# Altium schematic symbol library DAC.SCHLIB: 78 symbols
Pins are listed as number, name and electrical type; pins without a type are passive.

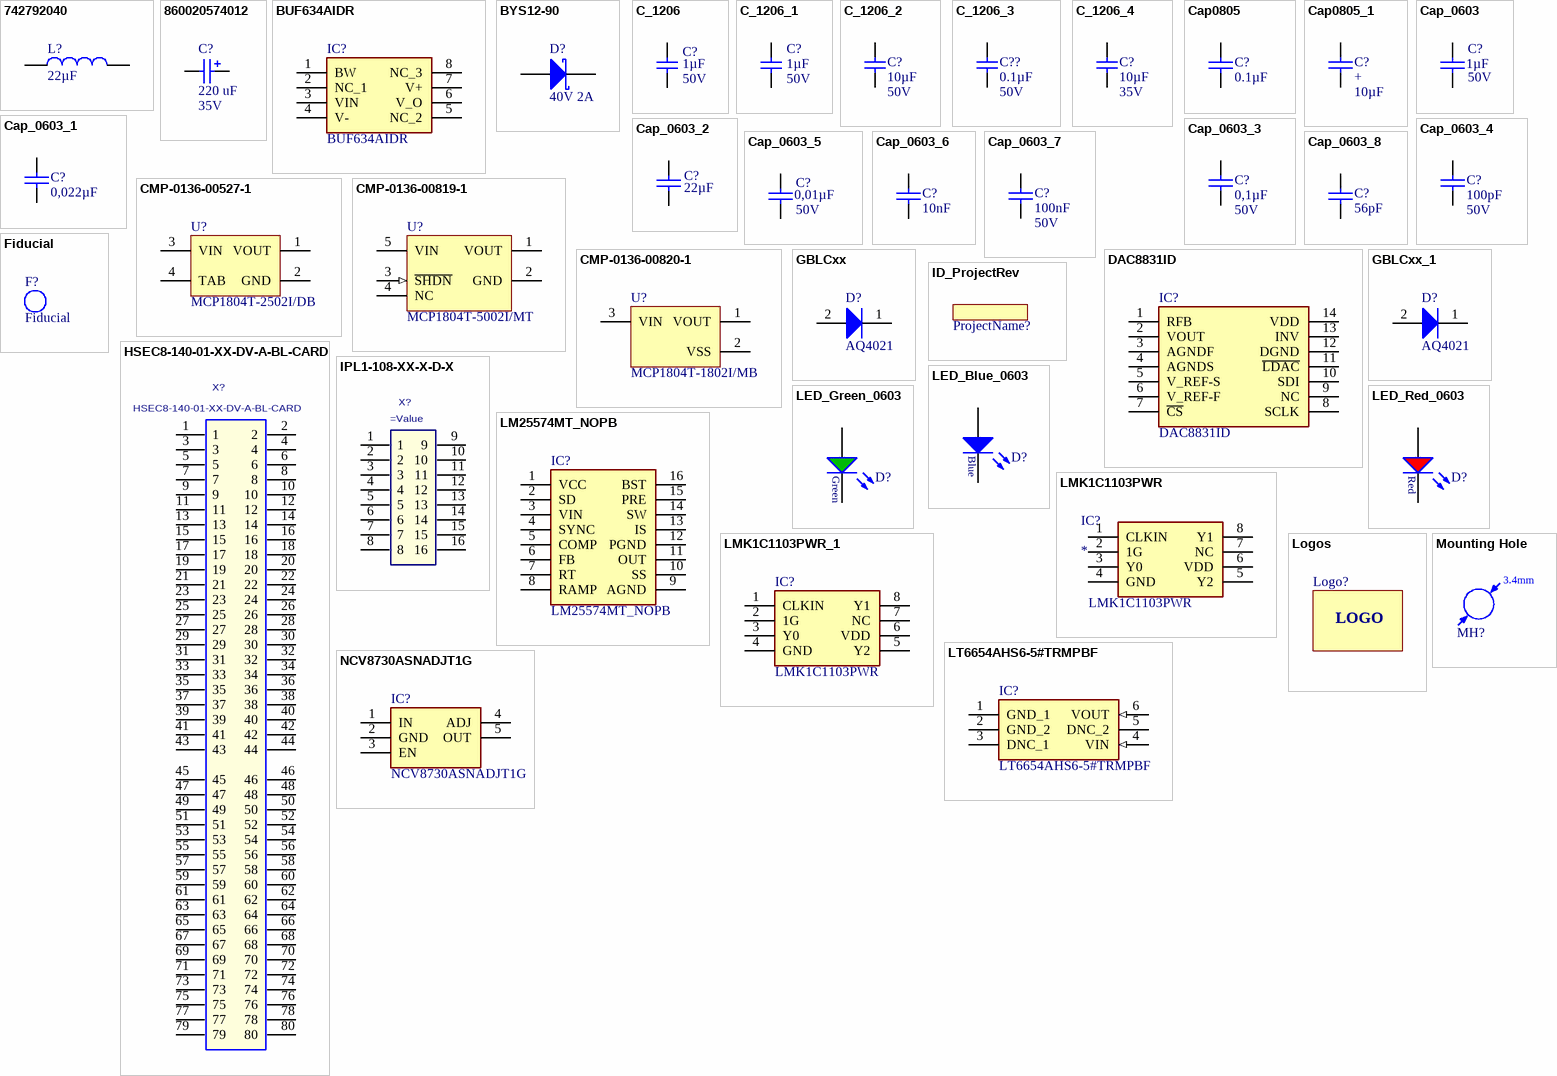
[diagram p0: symbols 742792040 to NCV8730ASNADJT1G]

## 742792040
designator L?, comment 22µF
Inductance, 0805, 100 MHz, 600 Ohm, 2 A; Manufacturer Part Number: 742792040; Manufacturer: Wurth Elektronik; Type: Inductance SMD; DC current: 2 A; Value: 600 Ohm; Created from: MGremer; PartID: 1; Created On: 18.01.2021 14:53:17; ComponentLink1Description: Datasheet; ComponentLink1URL: https://www.mouser.de/datasheet/2/445/742792040-1720361.pdf; Component Type: Inductance; Device Package: 0805; Last Updated: 18.01.2021 14:53:25; Mounting Type: SMD; Operating Temperature: -55 - 125 °C; Series: WE-CBF; Supplier 1: Mouser; Supplier Part Number 1: 710-742792040; Live Cycle Status: 1; Stock number: not stored
footprint WE-CBF_0805_High Current
pins: 1, 2

## 860020574012
designator C?, comment 220 uF  Voltage: 35V
WCAP-ATG5 Aluminum Electrolytic Capacitors, 8x11.5mm, 35 Vdc, 220 uF; Part Number: 860020574012; MF: Wurth Elektronik; ComponentLink1Description: Manufacturer; ComponentLink1URL: http://www.we-online.de; ComponentLink2Description: Datasheet; ComponentLink2URL: http://katalog.we-online.com/pbs/datasheet/860020574012.pdf; Published Date: Sep. 2017; Size: 8x11.5mm; Life Cycle: 2000h; Operating Temperature: -40 °C up to +105 °C; Value: 220 uF; MPN: 860020574012; Supplier 1: Mouser; Supplier Part Number 1: 710-860020574012
footprint WCAP-ATG5_8x11.5x3.5
pins: 1 P, 2 N

## BUF634AIDR
designator IC?
Integrated Circuit; Manufacturer_Name: Texas Instruments; Datasheet Link: http://www.ti.com/lit/gpn/BUF634A; Height: 1.75mm; Mouser2 Part Number: 595-BUF634AIDR; Mouser2 Price/Stock: https://www.mouser.com/Search/Refine.aspx?Keyword=595-BUF634AIDR; Manufacturer_Part_Number: BUF634AIDR
footprint SOIC127P600X175-8N
pins: 1 BW, 2 NC_1, 3 VIN, 4 V-, 5 NC_2, 6 V_O, 7 V+, 8 NC_3

## BYS12-90
designator D?, comment 40V 2A
Schottky Diode; MPN: BYS12-90-E3/TR3; MF: Vishay; Forward Voltage: 750mV; Reverse Voltage: 90V; Rated Current: 1.5A; Package: DO-214AC; Supplier 1: Farnell; Supplier 2: Mouser; Supplier 3: Digi-Key; Supplier Part Number 1: 2889144; Supplier Part Number 2: 625-BYS12-90-E3/TR3; Supplier Part Number 3: BYS12-90-E3/GICT-ND; ComponentLink1Description: Manufacturer; ComponentLink1URL: https://www.vishay.com/; ComponentLink2Description: Datasheet; ComponentLink2URL: https://www.vishay.com/docs/88950/bys12-90.pdf
footprint DIOM4227X23N (Molded Diode, 2-Leads, Body 4,25x2,67mm, IPC Medium Density)
pins: 1 K, 2 A

## C_1206
designator C?, comment 1µF  Voltage: 50V
Capacitor 1206; MPN: CL31A106MBHNNNE; Tolerance: 10%; MF: Samsung; Dielectric: X5R; Package: 1206; Value: 1µF; Created: 2020_09_17_Liegmann; Supplier 1: Mouser; Supplier Part Number 1: 187-CL31A106MBHNNNE
footprint C_1206
pins: 1, 2

## C_1206_1
designator C?, comment 1µF  Voltage: 50V
Capacitor 1206; MPN: CL31A106MBHNNNE; Tolerance: 20%; MF: Samsung; Dielectric: X5R; Package: 1206; Value: 1µF; Supplier 1: Mouser; Supplier Part Number 1: 187-CL31A106MBHNNNE
footprint C_1206
pins: 1, 2

## C_1206_2
designator C?, comment 10µF  Voltage: 50V
Capacitor 1206; MPN: CL31A106MBHNNNE; Tolerance: 10%; MF: Samsung; Dielectric: X5R; Package: 1206; Value: 10µF; Created: 2020_09_17_Liegmann; Supplier 1: Mouser; Supplier Part Number 1: 187-CL31A106MBHNNNE
footprint C_1206
pins: 1, 2

## C_1206_3
designator C??, comment 0.1µF  Voltage: 50V
Capacitor 1206; MPN: CL31A106MBHNNNE; Tolerance: 20%; MF: Samsung; Dielectric: X5R; Package: 1206; Value: 0.1µF; Supplier 1: Mouser; Supplier Part Number 1: 187-CL31A106MBHNNNE
footprint C_1206
pins: 1, 2

## C_1206_4
designator C?, comment 10µF  Voltage: 35V
Capacitor 1206; MPN: GRM319R6YA106KA12D; Tolerance: 10%; MF: Murata Electronics; Dielectric: X5R; Package: 1206; Value: 10µF; Created: 2018_06_25_AGeiger; Supplier 1: Mouser; Supplier Part Number 1: 81-GRM319R6YA106KA2D
footprint C_1206
pins: 1, 2

## Cap0805
designator C?, comment 0.1µF
CAP CER 0805; MPN: CL21A106KQFNNNE; MF: Samsung Electro-Mechanics; Dielectric: X5R; Supplier 1: Mouser; Supplier 2: *; Supplier Part Number 1: 187-CL21A106KQFNNNE; Supplier Part Number 2: *; Package: 0805; Value: 0.1µF
footprint Cap0805
pins: 1, 2

## Cap0805_1
designator C?, comment +  value 10µF
CAP CER 0805; MPN: CL21A106KQFNNNE; MF: Samsung Electro-Mechanics; Dielectric: X5R; Supplier 1: Mouser; Supplier 2: *; Supplier Part Number 1: 187-CL21A106KQFNNNE; Supplier Part Number 2: *; Package: 0805
footprint Cap0805
pins: 1, 2

## Cap_0603
designator C?, comment 1µF  Voltage: 50V
MPN: CC0603KRX7R9BB104; MF: Yageo; Dielectric: X5R; Value: 1µF; Supplier 1: Mouser; Supplier 2: Mouser; Supplier Part Number 1: 603-CC603KRX7R9BB104; Supplier Part Number 2: 710-885382206004; Package: 0603
footprint CAPC1608X07N (Chip Capacitor, 2-Leads, Body 1,60x0,80mm, IPC Medium Density)
pins: 1, 2

## Cap_0603_1
designator C?, comment 0,022µF
MPN: 885012206065; MF: Würth; Voltage: 25V; Dielectric: X7R; Value: 0,022µF; Supplier 1: Mouser; Supplier 2: *; Supplier Part Number 1: 710-885012206065; Supplier Part Number 2: *; Package: 0603
footprint CAPC1608X07N (Chip Capacitor, 2-Leads, Body 1,60x0,80mm, IPC Medium Density)
pins: 1, 2

## Cap_0603_2
designator C?, comment 22µF
MPN: C0603C752J3GACTU; Value: 7.5nF; MF: KEMET; Voltage: 25V; Dielectric: C0G; Supplier 1: Mouser; Supplier 2: *; Supplier Part Number 1: 80-C0603C752J3GACTU; Supplier Part Number 2: *; Package: 0603
footprint CAPC1608X07N (Chip Capacitor, 2-Leads, Body 1,60x0,80mm, IPC Medium Density)
pins: 1, 2

## Cap_0603_3
designator C?, comment 0,1µF  Voltage: 50V
MPN: CC0603KRX7R9BB104; MF: Yageo; Tolerance: 10%; Dielectric: X5R; Value: 0,1µF; Supplier 1: Mouser; Supplier 2: Mouser; Supplier Part Number 1: 603-CC603KRX7R9BB104; Supplier Part Number 2: 710-885382206004; Package: 0603
footprint CAPC1608X07N (Chip Capacitor, 2-Leads, Body 1,60x0,80mm, IPC Medium Density)
pins: 1, 2

## Cap_0603_4
designator C?, comment 100pF  Voltage: 50V
MPN: CC0603KRX7R9BB104; MF: Yageo; Tolerance: 10%; Dielectric: X5R; Value: 100pF; Supplier 1: Mouser; Supplier 2: Mouser; Supplier Part Number 1: 603-CC603KRX7R9BB104; Supplier Part Number 2: 710-885382206004; Package: 0603
footprint CAPC1608X07N (Chip Capacitor, 2-Leads, Body 1,60x0,80mm, IPC Medium Density)
pins: 1, 2

## Cap_0603_5
designator C?, comment 0,01µF  Voltage: 50V
MPN: CC0603KRX7R9BB104; MF: Yageo; Tolerance: 10%; Dielectric: X5R; Value: 0,01µF; Supplier 1: Mouser; Supplier 2: Mouser; Supplier Part Number 1: 603-CC603KRX7R9BB104; Supplier Part Number 2: 710-885382206004; Package: 0603
footprint CAPC1608X07N (Chip Capacitor, 2-Leads, Body 1,60x0,80mm, IPC Medium Density)
pins: 1, 2

## Cap_0603_6
designator C?, comment 10nF
MPN: 885012206065; MF: Würth Elektronik; Voltage: 25V; Dielectric: X7R; Value: 10nF; Supplier 1: Mouser; Supplier 2: Digi-Key; Supplier Part Number 1: 710-885012206065; Supplier Part Number 2: 732-7983-1-ND; Package: 0603
footprint CAPC1608X07N (Chip Capacitor, 2-Leads, Body 1,60x0,80mm, IPC Medium Density)
pins: 1, 2

## Cap_0603_7
designator C?, comment 100nF  Voltage: 50V
MPN: CC0603KRX7R9BB104; MF: Yageo; Dielectric: X5R; Value: 100nF; Supplier 1: Mouser; Supplier 2: Mouser; Supplier Part Number 1: 603-CC603KRX7R9BB104; Supplier Part Number 2: 710-885382206004; Package: 0603
footprint CAPC1608X07N (Chip Capacitor, 2-Leads, Body 1,60x0,80mm, IPC Medium Density)
pins: 1, 2

## Cap_0603_8
designator C?, comment 56pF
MPN: C0603C560J5GACTU; MF: Kemet; Voltage: 50V; Dielectric: C0G; Value: 56pF; Supplier 1: Mouser; Supplier 2: *; Supplier Part Number 1: 80-C0603C560J5G; Supplier Part Number 2: *; Package: 0603
footprint CAPC1608X07N (Chip Capacitor, 2-Leads, Body 1,60x0,80mm, IPC Medium Density)
pins: 1, 2

## CMP-0136-00527-1
designator U?, comment MCP1804T-2502I/DB
150 mA, 28V LDO Regulator With Shutdown, 3-Pin SOT-223, Industrial Temperature, Tape and Reel; Manufacturer: Microchip; PackageDescription: 3-Lead Plastic Small Outline Transistor (DB) [SOT-223]; PackageVersion: revBB, Aug-2009; DatasheetVersion: revB, Nov-2009; PackageReference: SOT-223-DB3; Manufacturer Part Number: MCP1804T-2502I/DB
footprint SOT-223-DB3_L (SOT223, 4-Leads, Body 6.5x3.5mm, Pitch 2.3mm, Lead Span 7mm, IPC High Density)
footprint SOT-223-DB3_N (SOT223, 4-Leads, Body 6.5x3.5mm, Pitch 2.3mm, Lead Span 7mm, IPC Medium Density)
footprint SOT-223-DB3_M (SOT223, 4-Leads, Body 6.5x3.5mm, Pitch 2.3mm, Lead Span 7mm, IPC Low Density)
pins: 1 VOUT (power), 2 GND (power), 3 VIN (power), 4 TAB (power)

## CMP-0136-00819-1
designator U?, comment MCP1804T-5002I/MT
150 mA, 28V LDO Regulator With Shutdown, 5-Pin SOT-89, Industrial Temperature, Tape and Reel; Manufacturer: Microchip; DatasheetVersion: revB, Nov-2009; PackageReference: SOT-89-MT5; PackageDescription: 5-Lead Plastic Small Outline Transistor Header (MT) [SOT-89]; PackageVersion: revBB, Aug-2009; Manufacturer Part Number: MCP1804T-5002I/MT
footprint SOT-89-MT5_L (SOT89, 5-Leads, Body 4.5x2.4 mm, Pitch 1.5mm, Lead Span 4.2mm, IPC High Density)
footprint SOT-89-MT5_M (SOT89, 5-Leads, Body 4.5x2.4 mm, Pitch 1.5mm, Lead Span 4.2mm, IPC Low Density)
footprint SOT-89-MT5_N (SOT89, 5-Leads, Body 4.5x2.4 mm, Pitch 1.5mm, Lead Span 4.2mm, IPC Medium Density)
pins: 1 VOUT (power), 2 GND (power), 3 ~{SHDN} (in), 4 NC, 5 VIN (power)

## CMP-0136-00820-1
designator U?, comment MCP1804T-1802I/MB
150 mA, 28V LDO Regulator With Shutdown, 3-Pin SOT-89, Industrial Temperature, Tape and Reel; Manufacturer: Microchip; PackageVersion: revBB, Aug-2009; DatasheetVersion: revB, Nov-2009; PackageReference: SOT-89-MB3; PackageDescription: 3-Lead Plastic Small Outline Transistor Header (MB) [SOT-89]; Code_IPC: SOT89; Manufacturer Part Number: MCP1804T-1802I/MB
footprint SOT-89-MB3_L (SOT89, 3-Leads, Body 4.5x2.4 mm, Pitch 1.5mm, Lead Span 4.1mm, IPC High Density)
footprint SOT-89-MB3_M (SOT89, 3-Leads, Body 4.5x2.4 mm, Pitch 1.5mm, Lead Span 4.1mm, IPC Low Density)
footprint SOT-89-MB3_N (SOT89, 3-Leads, Body 4.5x2.4 mm, Pitch 1.5mm, Lead Span 4.1mm, IPC Medium Density)
pins: 1 VOUT (power), 2 VSS (power), 3 VIN (power)

## DAC8831ID
designator IC?
Integrated Circuit; Manufacturer_Name: Texas Instruments; Datasheet Link: http://www.ti.com/lit/gpn/dac8831; Height: 1.75mm; Manufacturer_Part_Number: DAC8831ID
footprint SOIC127P600X175-14N
pins: 1 RFB, 2 VOUT, 3 AGNDF, 4 AGNDS, 5 V_REF-S, 6 V_REF-F, 7 ~{CS}, 8 SCLK, 9 NC, 10 SDI, 11 ~{LDAC}, 12 DGND, 13 INV, 14 VDD

## Fiducial
designator F?  (no BOM)
Fiducial for Assembler
footprint Fiducial_1.7mm (Fiducial)

## GBLCxx
designator D?, comment AQ4021
ESD Suppressor Diode TVS Bi-Dir 5V; MPN: AQ4021-01FTG-C; MF: Littelfuse; Reverse Standoff Voltage: 5.0V; Breakdown Voltage: 6.3V; Package: SOD-323; Supplier 1: Mouser; Supplier 2: Digi-Key; Supplier Part Number 1: 576-AQ4021-01FTG-C; Supplier Part Number 2: F10397CT-ND; ComponentLink1Description: Datasheet; ComponentLink1URL: https://static6.arrow.com/aropdfconversion/cf1b73a38d87e210bfa153441e03466b149f09ba/gblci.pdf; Supplier 3: Farnell; Supplier Part Number 3: 2834965; Model: AQ4021
footprint SOD-323_SuppressorDiode (SOD, 2-Leads, Body 1.7x1.25mm)
pins: 1 K, 2 A

## GBLCxx_1
designator D?, comment AQ4021
ESD Suppressor Diode TVS Bi-Dir 5V; MPN: AQ4021-01FTG-C; MF: Littelfuse; Reverse Standoff Voltage: 5.0V; Breakdown Voltage: 6.3V; Package: SOD-323; Supplier 1: Mouser; Supplier 2: Digi-Key; Supplier Part Number 1: 576-AQ4021-01FTG-C; Supplier Part Number 2: F10397CT-ND; ComponentLink1Description: Datasheet; ComponentLink1URL: https://www.littelfuse.com/~/media/electronics/datasheets/tvs_diode_arrays/littelfuse_tvs_diode_array_aq4021_datasheet.pdf.pdf?src-supplier=Digi-Key; Supplier 3: Farnell; Supplier Part Number 3: 2834965; Model: AQ4021
footprint SOD-323_SuppressorDiode (SOD, 2-Leads, Body 1.7x1.25mm)
pins: 1 K, 2 A

## HSEC8-140-01-XX-DV-A-BL-CARD
designator X?
Mating Card Layout for HSEC8-140-01-XX-DV-A-BL; Manufacturer: SAMTEC; Created: 2018_04_23_AGeiger; Value: HSEC8-140-01-XX-DV-A-BL-CARD
footprint HSEC8-140-01-XX-DV-A-BL-CARD
pins: 1, 2, 3, 4, 5, 6, 7, 8, 9, 10, 11, 12, 13, 14, 15, 16, 17, 18, 19, 20, 21, 22, 23, 24, 25, 26, 27, 28, 29, 30, 31, 32, 33, 34, 35, 36, 37, 38, 39, 40, 41, 42, 43, 44, 45, 46, 47, 48, 49, 50, 51, 52, 53, 54, 55, 56, 57, 58, 59, 60, 61, 62, 63, 64, 65, 66, 67, 68, 69, 70, 71, 72, 73, 74, 75, 76, 77, 78, 79, 80

## ID_ProjectRev
designator ProjectName?, comment Project Name, Rev  (value not drawn)  (no BOM)
Project Name and Revision Number; Created: 2018_11_23_AGeiger; Value: Project Name, Rev
footprint ID_ProjectRev (project name + revision number)

## IPL1-108-XX-X-D-X
designator X?
2.54mm Double Row Terminal Assembly; MF: SAMTEC; Created: 2018_09_17_AGeiger; Value: =MPN; Supplier 1: Mouser; Supplier Part Number 1: 200-IPL110801LDRAK
footprint IPL1-108-01-L-D-RA-K
pins: 1, 2, 3, 4, 5, 6, 7, 8, 9, 10, 11, 12, 13, 14, 15, 16

## LED_Blue_0603
designator D?, comment 150060BS75000  (value not drawn)
WL-SMCW SMD Mono-color Chip LED Waterclear, size 0603, Blue, 3.2 V, 140°; Forward Voltage: 3.2 V; Luminous Intensity: 145 mcd; Peak Wavelength: 465 nm; Dominant Wavelength: 470 nm; MF: Wuerth Elektronik; Published Date: Sep. 2017; ComponentLink1Description: Manufacturer; ComponentLink1URL: http://www.we-online.de; ComponentLink2Description: Datasheet; ComponentLink2URL: http://katalog.we-online.com/led/datasheet/150060BS75000.pdf; MPN: 150060BS75000; Size: 0603; Viewing Angle: 140°; Emitting Color: Blue; Value: 150060BS75000; Package: 0603; Created: 2018_09_06_AGeiger; Supplier 1: Farnell; Supplier Part Number 1: 2322069; Supplier 2: Mouser; Supplier Part Number 2: 710-150060BS75000; Supplier 3: Digi-Key; Supplier Part Number 3: 732-4966-1-ND
footprint WL-SMCW_0603 (SMD Mono-color Chip LED, body 1.6x0.8mm)
pins: 1 K, 2 A

## LED_Green_0603
designator D?, comment 150060GS75000  (value not drawn)
WL-SMCW SMD Mono-color Chip LED Waterclear, size 0603, Green, 3.2 V, 140°; Forward Voltage: 3.2 V; Luminous Intensity: 430 mcd; Peak Wavelength: 515 nm; Dominant Wavelength: 520 nm; MF: Wuerth Elektronik; Published Date: Sep. 2017; ComponentLink1Description: Manufacturer; ComponentLink1URL: http://www.we-online.de; ComponentLink2Description: Datasheet; ComponentLink2URL: http://katalog.we-online.com/led/datasheet/150060GS75000.pdf; MPN: 150060GS75000; Size: 0603; Viewing Angle: 140°; Emitting Color: Green; Value: 150060GS75000; Package: 0603; Created: 2018_09_06_AGeiger; Supplier 1: Farnell; Supplier Part Number 1: 2322070; Supplier 2: Mouser; Supplier Part Number 2: 710-150060GS75000; Supplier 3: Digi-Key; Supplier Part Number 3: 732-4971-1-ND
footprint WL-SMCW_0603 (SMD Mono-color Chip LED, body 1.6x0.8mm)
pins: 1 K, 2 A

## LED_Red_0603
designator D?, comment 150060RS75000  (value not drawn)
WL-SMCW SMD Mono-color Chip LED Waterclear, size 0603, Red, 2 V, 140°; Forward Voltage: 2 V; Luminous Intensity: 250 mcd; Peak Wavelength: 630 nm; Dominant Wavelength: 625 nm; MF: Wuerth Elektronik; Published Date: Sep. 2017; ComponentLink1Description: Manufacturer; ComponentLink1URL: http://www.we-online.de; ComponentLink2Description: Datasheet; ComponentLink2URL: http://katalog.we-online.com/led/datasheet/150060RS75000.pdf; MPN: 150060RS75000; Size: 0603; Viewing Angle: 140°; Emitting Color: Red; Value: 150060RS75000; Package: 0603; Created: 2018_09_06_AGeiger; Supplier 1: Farnell; Supplier Part Number 1: 2322071; Supplier 2: Mouser; Supplier Part Number 2: 710-150060RS75000; Supplier 3: Digi-Key; Supplier Part Number 3: 732-4978-1-ND
footprint WL-SMCW_0603 (SMD Mono-color Chip LED, body 1.6x0.8mm)
pins: 1 K, 2 A

## LM25574MT_NOPB
designator IC?
Integrated Circuit; Manufacturer_Name: Texas Instruments; Manufacturer_Part_Number: LM25574MT/NOPB; Datasheet Link: http://www.ti.com/lit/ds/symlink/lm25574.pdf; Height: 1.2mm
footprint SOP65P640X120-16N
pins: 1 VCC, 2 SD, 3 VIN, 4 SYNC, 5 COMP, 6 FB, 7 RT, 8 RAMP, 9 AGND, 10 SS, 11 OUT, 12 PGND, 13 IS, 14 SW, 15 PRE, 16 BST

## LMK1C1103PWR
designator IC?  Manufacturer_Part_Number: LMK1C1103PWR
Integrated Circuit; Manufacturer_Name: Texas Instruments; Datasheet Link: https://www.ti.com/lit/ds/symlink/lmk1c1103.pdf?ts=1603742885821&ref_url=https%253A%252F%252Fwww.ti.com%252Fproduct%252FLMK1C1103; Height: 1.2mm; Mouser Part Number: 595-LMK1C1103PWR; Mouser Price/Stock: https://www.mouser.co.uk/ProductDetail/Texas-Instruments/LMK1C1103PWR?qs=rI7uf1IzohQWIx%2FERNzyRA%3D%3D; Arrow Part Number: LMK1C1103PWR; Arrow Price/Stock: https://www.arrow.com/en/products/lmk1c1103pwr/texas-instruments?region=nac
footprint SOP65P640X120-8N
pins: 1 CLKIN, 2 1G, 3 Y0, 4 GND, 5 Y2, 6 VDD, 7 NC, 8 Y1

## LMK1C1103PWR_1
designator IC?, comment LMK1C1103PWR
Integrated Circuit; Manufacturer_Name: Texas Instruments; Datasheet Link: https://www.ti.com/lit/ds/symlink/lmk1c1103.pdf?ts=1603742885821&ref_url=https%253A%252F%252Fwww.ti.com%252Fproduct%252FLMK1C1103; Height: 1.2mm; Manufacturer_Part_Number: LMK1C1103PWR; Mouser Part Number: 595-LMK1C1103PWR; Mouser Price/Stock: https://www.mouser.co.uk/ProductDetail/Texas-Instruments/LMK1C1103PWR?qs=rI7uf1IzohQWIx%2FERNzyRA%3D%3D; Arrow Part Number: LMK1C1103PWR; Arrow Price/Stock: https://www.arrow.com/en/products/lmk1c1103pwr/texas-instruments?region=nac
footprint SOP65P640X120-8N
pins: 1 CLKIN, 2 1G, 3 Y0, 4 GND, 5 Y2, 6 VDD, 7 NC, 8 Y1

## Logos
designator Logo?
Logos of TUM, Ohm, Santiago
footprint Logo_Partners_1 (THN, TUM and USACH Logo)
footprint Logo_Partners_2 (USACH, THN and TUM Logo)
text: LOGO

## LT6654AHS6-5#TRMPBF
designator IC?
Integrated Circuit; Manufacturer_Name: Analog Devices; Datasheet Link: https://datasheet.datasheetarchive.com/originals/distributors/Datasheets_SAMA/831097393ba251ce33d430dddaea43ac.pdf; Height: 1mm; Manufacturer_Part_Number: LT6654AHS6-5#TRMPBF
footprint SOT95P280X100-6N
pins: 1 GND_1 (power), 2 GND_2 (power), 3 DNC_1, 4 VIN (in), 5 DNC_2, 6 VOUT (in)

## Mounting Hole
designator MH?, comment mounting hole 3,4mm  (value not drawn)  (no BOM)
Non plated through hole, 3.4mm
footprint MH_3.4
text: 3.4mm

## NCV8730ASNADJT1G
designator IC?
Integrated Circuit; Manufacturer_Name: ON Semiconductor; Datasheet Link: https://www.arrow.com/en/products/ncv8730asnadjt1g/on-semiconductor; Height: 1.1mm; Manufacturer_Part_Number: NCV8730ASNADJT1G
footprint SOT95P275X110-5N
pins: 1 IN, 2 GND, 3 EN, 4 ADJ, 5 OUT

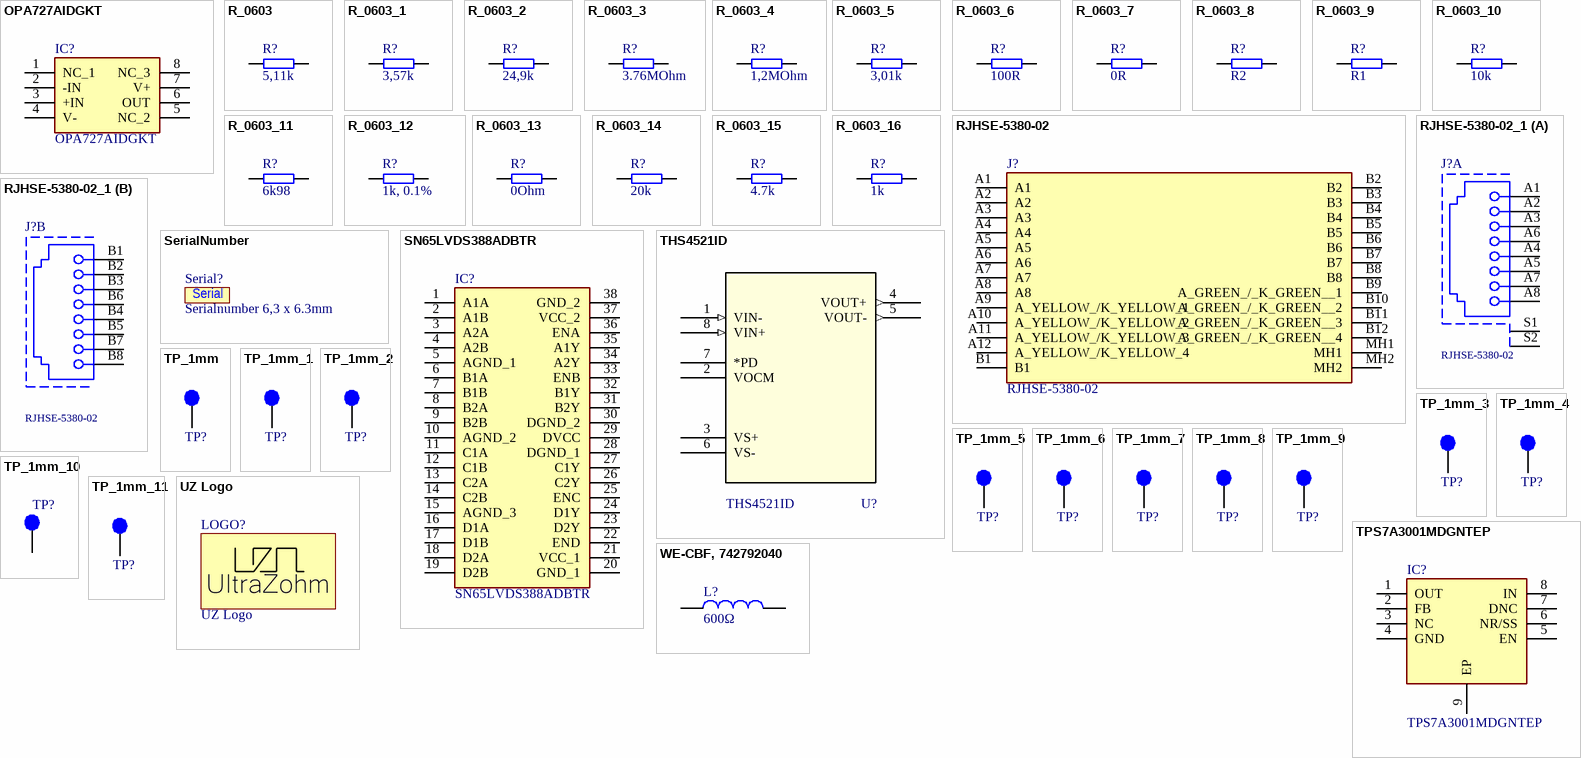
[diagram p1: symbols OPA727AIDGKT to WE-CBF, 742792040]

## OPA727AIDGKT
designator IC?
Integrated Circuit; Manufacturer_Name: Texas Instruments; Datasheet Link: http://www.ti.com/lit/ds/symlink/opa727.pdf; Height: 1.1mm; Manufacturer_Part_Number: OPA727AIDGKT
footprint SOP65P490X110-8N
pins: 1 NC_1, 2 -IN, 3 +IN, 4 V-, 5 NC_2, 6 OUT, 7 V+, 8 NC_3

## R_0603
designator R?, comment 5,11k
MPN: CR0603-FX-1621ELF; MF: Bourns; Tolerance: 1%; Value: 5,11k; Supplier 1: Mouser; Supplier Part Number 1: 652-CR0603FX-1621ELF; Package: 0603
footprint RESC1608X06N (Chip Resistor, 2-Leads, Body 1,60x0,80mm, IPC Medium Density)
pins: 1, 2

## R_0603_1
designator R?, comment 3,57k
MPN: CR0603-FX-1623ELF; MF: Bourns; Value: 3,57k; Supplier 1: Mouser; Supplier Part Number 1: 652-CR0603-FX1623ELF; Package: 0603
footprint RESC1608X06N (Chip Resistor, 2-Leads, Body 1,60x0,80mm, IPC Medium Density)
pins: 1, 2

## R_0603_2
designator R?, comment 24,9k
MPN: CR0603-FX-1623ELF; MF: Bourns; Value: 24,9k; Supplier 1: Mouser; Supplier Part Number 1: 652-CR0603-FX1623ELF; Package: 0603
footprint RESC1608X06N (Chip Resistor, 2-Leads, Body 1,60x0,80mm, IPC Medium Density)
pins: 1, 2

## R_0603_3
designator R?, comment 3.76MOhm
MPN: CR0603-FX-1021ELF; MF: Bourns; Tolerance: 1%; Value: 3.76MOhm; Supplier 1: Mouser; Supplier Part Number 1: 652-CR0603FX-1021ELF; Package: 0603
footprint RESC1608X06N (Chip Resistor, 2-Leads, Body 1,60x0,80mm, IPC Medium Density)
pins: 1, 2

## R_0603_4
designator R?, comment 1,2MOhm
MPN: CR0603-FX-1021ELF; MF: Bourns; Tolerance: 1%; Value: 1,2MOhm; Supplier 1: Mouser; Supplier Part Number 1: 652-CR0603FX-1021ELF; Package: 0603
footprint RESC1608X06N (Chip Resistor, 2-Leads, Body 1,60x0,80mm, IPC Medium Density)
pins: 1, 2

## R_0603_5
designator R?, comment 3,01k
MPN: AC0603FR-1375KL; MF: Yageo; Value: 3,01k; Supplier 1: Mouser; Supplier Part Number 1: 603-AC0603FR-1375KL; Package: 0603
footprint RESC1608X06N (Chip Resistor, 2-Leads, Body 1,60x0,80mm, IPC Medium Density)
pins: 1, 2

## R_0603_6
designator R?, comment 100R
MPN: CRCW0603100RFKEAC; MF: Vishay / Dale; Value: 100R; Supplier 1: Mouser; Supplier Part Number 1: 71-CRCW0603100RFKEAC; Package: 0603
footprint RESC1608X06N (Chip Resistor, 2-Leads, Body 1,60x0,80mm, IPC Medium Density)
pins: 1, 2

## R_0603_7
designator R?, comment 0R
MPN: CRCW06030000Z0EBC; MF: Vishay / Dale; Value: 0R; Supplier 1: Mouser; Supplier Part Number 1: 71-CRCW06030000Z0EBC; Package: 0603
footprint RESC1608X06N (Chip Resistor, 2-Leads, Body 1,60x0,80mm, IPC Medium Density)
pins: 1, 2

## R_0603_8
designator R?, comment R2
MPN: CR0603-FX-1002ELF; MF: Bourns; Tolerance: 1%; Value: R2; Supplier 1: Mouser; Supplier Part Number 1: 652-CR0603FX-1002ELF; Package: 0603
footprint RESC1608X06N (Chip Resistor, 2-Leads, Body 1,60x0,80mm, IPC Medium Density)
pins: 1, 2

## R_0603_9
designator R?, comment R1
MPN: CR0603-FX-3572ELF; MF: Bourns; Tolerance: 1%; Value: R1; Supplier 1: Mouser; Supplier Part Number 1: 652-CR0603FX-3572ELF; Package: 0603
footprint RESC1608X06N (Chip Resistor, 2-Leads, Body 1,60x0,80mm, IPC Medium Density)
pins: 1, 2

## R_0603_10
designator R?, comment 10k
MPN: CR0603-FX-1002ELF; MF: Bourns; Tolerance: 1%; Value: 10k; Supplier 1: Mouser; Supplier Part Number 1: 652-CR0603FX-1002ELF; Package: 0603
footprint RESC1608X06N (Chip Resistor, 2-Leads, Body 1,60x0,80mm, IPC Medium Density)
pins: 1, 2

## R_0603_11
designator R?, comment 6k98
MPN: CR0603-FX-6981ELF; MF: Bourns; Tolerance: 1%; Value: 6k98; Supplier 1: Mouser; Supplier Part Number 1: 652-CR0603FX-6981ELF; Package: 0603
footprint RESC1608X06N (Chip Resistor, 2-Leads, Body 1,60x0,80mm, IPC Medium Density)
pins: 1, 2

## R_0603_12
designator R?, comment 1k, 0.1%
Precision Resistor 1k 0.1% 0603; MPN: PCF-W0603LF-03-1001-B-P-LT; MF: IRC/TT Electronics; Precision: 0,1%; Value: 1k, 0.1%; Supplier 1: Mouser; Supplier Part Number 1: 66-PCFW0603LF031001B; Package: 0603; Supplier 2: RSComponents; Supplier Part Number 2: 178-6613; Supplier 3: RSComponents; Supplier Part Number 3: 520-3620
footprint RESC1608X06N (Chip Resistor, 2-Leads, Body 1,60x0,80mm, IPC Medium Density)
pins: 1, 2

## R_0603_13
designator R?, comment 0Ohm
Precision Resistor 1k 0.1% 0603; MPN: PCF-W0603LF-03-1001-B-P-LT; MF: IRC/TT Electronics; Precision: 0,1%; Value: 0Ohm; Supplier 1: Mouser; Supplier Part Number 1: 66-PCFW0603LF031001B; Package: 0603; Supplier 2: RSComponents; Supplier Part Number 2: 178-6613; Supplier 3: RSComponents; Supplier Part Number 3: 520-3620
footprint RESC1608X06N (Chip Resistor, 2-Leads, Body 1,60x0,80mm, IPC Medium Density)
pins: 1, 2

## R_0603_14
designator R?, comment 20k
MPN: CRCW060320K0JNEAC; MF: Vishay / Dale; Value: 20k; Supplier 1: Mouser; Supplier Part Number 1: 71-CRCW060320K0JNEAC; Package: 0603
footprint RESC1608X06N (Chip Resistor, 2-Leads, Body 1,60x0,80mm, IPC Medium Density)
pins: 1, 2

## R_0603_15
designator R?, comment 4.7k
MPN: CRCW06034K70JNEAC; MF: Vishay / Dale; Value: 4.7k; Supplier 1: Mouser; Supplier Part Number 1: 71-CRCW06034K70JNEAC; Package: 0603
footprint RESC1608X06N (Chip Resistor, 2-Leads, Body 1,60x0,80mm, IPC Medium Density)
pins: 1, 2

## R_0603_16
designator R?, comment 1k
MPN: CRCW06031K00JNEAC; MF: Vishay / Dale; Value: 1k; Supplier 1: Mouser; Supplier Part Number 1: 71-CRCW06031K00JNEAC; Package: 0603
footprint RESC1608X06N (Chip Resistor, 2-Leads, Body 1,60x0,80mm, IPC Medium Density)
pins: 1, 2

## RJHSE-5380-02
designator J?
Connector; Manufacturer_Name: Amphenol; Datasheet Link: https://componentsearchengine.com//RJHSE-5380-02.pdf; Height: 13.46mm; Mouser2 Part Number: 523-RJHSE-5380-02; Mouser2 Price/Stock: https://www.mouser.com/Search/Refine.aspx?Keyword=523-RJHSE-5380-02; Manufacturer_Part_Number: RJHSE-5380-02
footprint RJHSE538002
pins: A1, A2, A3, A4, A5, A6, A7, A8, A9 A_YELLOW_/K_YELLOW_1, A10 A_YELLOW_/K_YELLOW_2, A11 A_YELLOW_/K_YELLOW_3, A12 A_YELLOW_/K_YELLOW_4, B1, B2, B3, B4, B5, B6, B7, B8, B9 A_GREEN_/_K_GREEN__1, B10 A_GREEN_/_K_GREEN__2, B11 A_GREEN_/_K_GREEN__3, B12 A_GREEN_/_K_GREEN__4, MH1, MH2

## RJHSE-5380-02_1
designator J?, comment RJHSE-5380-02
Modular Jack WR-MJ, Tab Up, Shielded, Dual Port, Righ Angle, THT, 8P8C; MF: Amphenol; Port: 1x2; Entrance: Right Angle; Compliance: Lead free / RoHS; Rated Current: 1.5 A; Working Voltage: 120 VAC; Withstanding Voltage: 1000 VAC; Contact Resistance: 20 mOhm; ComponentLink1Description: Manufacturer; ComponentLink1URL: http://www.we-online.de; ComponentLink2Description: Datasheet; ComponentLink2URL: https://katalog.we-online.de/em/datasheet/615016137621.pdf; MPN: RJHSE-5380-02; Published Date: July 2018; Pin Number: 8P8C; Operating Temperature: -40 to 85 degC; Mounting Technology: THT; Packaging: Tray; Supplier 1: Mouser; Supplier Part Number 1: 523-RJHSE-5380-02
footprint RJHSE-5380-02 (Modular Jack Horizontal Shielded Dual Port 8P8C Tab Up)
part A pins: A1, A2, A3, A4, A5, A6, A7, A8, S1, S2
part B pins: B1, B2, B3, B4, B5, B6, B7, B8

## SerialNumber
designator Serial?, comment Serialnumber 6,3 x 6.3mm  (no BOM)
Created: 2018_09_18_AGeiger; Value: Serialnumber 6,3 x 6.3mm
footprint Serial_6.3x6.3mm
text: Serial

## SN65LVDS388ADBTR
designator IC?
Integrated Circuit; Manufacturer_Name: Texas Instruments; Datasheet Link: http://www.ti.com/lit/gpn/SN65LVDS388A; Height: 1.2mm; Manufacturer_Part_Number: SN65LVDS388ADBTR
footprint SOP50P640X120-38N
pins: 1 A1A, 2 A1B, 3 A2A, 4 A2B, 5 AGND_1, 6 B1A, 7 B1B, 8 B2A, 9 B2B, 10 AGND_2, 11 C1A, 12 C1B, 13 C2A, 14 C2B, 15 AGND_3, 16 D1A, 17 D1B, 18 D2A, 19 D2B, 20 GND_1, 21 VCC_1, 22 END, 23 D2Y, 24 D1Y, 25 ENC, 26 C2Y, 27 C1Y, 28 DGND_1, 29 DVCC, 30 DGND_2, 31 B2Y, 32 B1Y, 33 ENB, 34 A2Y, 35 A1Y, 36 ENA, 37 VCC_2, 38 GND_2

## THS4521ID
designator U?
No Description Available; Mfr_Name: Texas Instruments; Copyright: Copyright (C) 2021 Ultra Librarian. All rights reserved.; Manufacturer_Part_Number: THS4521ID; Digi-Key_Part_Number_1: 296-24076-5-ND; RefDes: RefDes; Type: DEV
footprint D8
pins: 1 VIN- (in), 2 VOCM, 3 VS+ (power), 4 VOUT+ (out), 5 VOUT- (out), 6 VS- (power), 7 *PD, 8 VIN+ (in)

## TP_1mm
designator TP?, comment ACLK_N  (value not drawn)
Testpoint 1mm; Created: 2018_06_25_AGeiger; Value: Testpoint 1mm
footprint TP_1mm
pins: 1

## TP_1mm_1
designator TP?, comment ACLK_P  (value not drawn)
Testpoint 1mm; Created: 2018_06_25_AGeiger; Value: Testpoint 1mm
footprint TP_1mm
pins: 1

## TP_1mm_2
designator TP?, comment PIN47  (value not drawn)
Testpoint 1mm; Created: 2018_06_25_AGeiger; Value: Testpoint 1mm
footprint TP_1mm
pins: 1

## TP_1mm_3
designator TP?, comment PIN49  (value not drawn)
Testpoint 1mm; Created: 2018_06_25_AGeiger; Value: Testpoint 1mm
footprint TP_1mm
pins: 1

## TP_1mm_4
designator TP?, comment PIN48  (value not drawn)
Testpoint 1mm; Created: 2018_06_25_AGeiger; Value: Testpoint 1mm
footprint TP_1mm
pins: 1

## TP_1mm_5
designator TP?, comment PIN50  (value not drawn)
Testpoint 1mm; Created: 2018_06_25_AGeiger; Value: Testpoint 1mm
footprint TP_1mm
pins: 1

## TP_1mm_6
designator TP?, comment PIN56  (value not drawn)
Testpoint 1mm; Created: 2018_06_25_AGeiger; Value: Testpoint 1mm
footprint TP_1mm
pins: 1

## TP_1mm_7
designator TP?, comment PIN53  (value not drawn)
Testpoint 1mm; Created: 2018_06_25_AGeiger; Value: Testpoint 1mm
footprint TP_1mm
pins: 1

## TP_1mm_8
designator TP?, comment BCLK_P  (value not drawn)
Testpoint 1mm; Created: 2018_06_25_AGeiger; Value: Testpoint 1mm
footprint TP_1mm
pins: 1

## TP_1mm_9
designator TP?, comment BCLK_N  (value not drawn)
Testpoint 1mm; Created: 2018_06_25_AGeiger; Value: Testpoint 1mm
footprint TP_1mm
pins: 1

## TP_1mm_10
designator TP?, comment negRail  (value not drawn)  (no BOM)
Testpoint 1mm; Created: 2018_06_25_AGeiger; Value: Testpoint 1mm
footprint TP_1mm
pins: 1

## TP_1mm_11
designator TP?, comment +  (value not drawn)  (no BOM)
Testpoint 1mm; Created: 2018_06_25_AGeiger; Value: +
footprint TP_1mm
pins: 1

## TPS7A3001MDGNTEP
designator IC?
Integrated Circuit; Manufacturer_Name: Texas Instruments; Datasheet Link: http://www.ti.com/lit/gpn/tps7a3001-ep; Height: 1.1mm; Mouser2 Part Number: 595-TPS7A3001MDGNTEP; Mouser2 Price/Stock: https://www.mouser.com/Search/Refine.aspx?Keyword=595-TPS7A3001MDGNTEP; Manufacturer_Part_Number: TPS7A3001MDGNTEP
footprint SOP65P490X110-9N
pins: 1 OUT, 2 FB, 3 NC, 4 GND, 5 EN, 6 NR/SS, 7 DNC, 8 IN, 9 EP

## UZ Logo
designator LOGO?  (no BOM)
UltraZohm Logo on PCB; Created: Jan2021_Liegmann; Value: UZ Logo
footprint UZ_Logo_large (logo width 6cm)
footprint UZ_Logo_medium (logo width 4.5cm)
footprint UZ_Logo_small (logo width 3cm)
footprint UZ_Logo_tiny (logo width 2cm)

## WE-CBF, 742792040
designator L?, comment 600Ω
WE-CBF SMD EMI Suppression Ferrite Bead, 0805, 600Ω; MPN: 742792040; MF: Wurth Elektronik; Type: High Current; PublishedDate: Aug 2016; ComponentLink1Description: Manufacturer; ComponentLink1URL: http://www.we-online.de; ComponentLink2Description: Datasheet; ComponentLink2URL: http://katalog.we-online.de/pbs/datasheet/742792040.pdf; Value: 600Ω; Size: 0805; Supplier 1: Farnell; Supplier 2: Mouser; Supplier 3: Digi-Key; Supplier Part Number 1: 2761567; Supplier Part Number 2: 710-742792040; Supplier Part Number 3: 732-1620-1-ND
footprint WE-CBF_0805_High Current (SMD EMI Suppression Ferrite  Bead, body 2.0mmx1.2mm)
pins: 1, 2